# EAGLE library part SJ2-35894D-SMT-TR (library SJ2-35894D-SMT-TR)
4 conductors, 3.5mm, SMT Audio Jack w/ 2 Switch
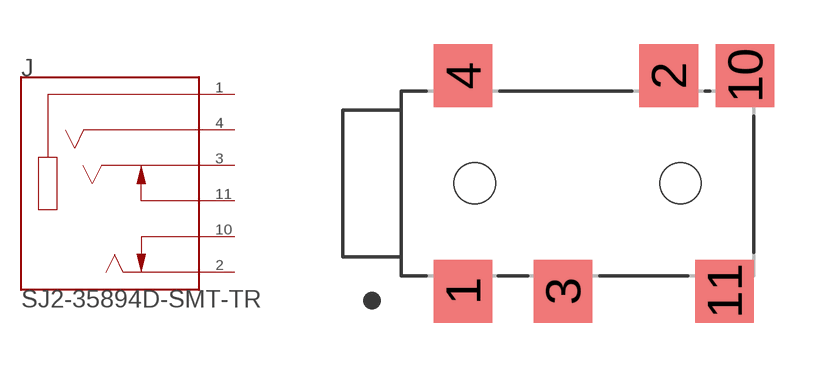
[diagram p0: symbol with the pads of CUI_SJ2-35894D-SMT-TR; footprint CUI_SJ2-35894D-SMT-TR]

Designator prefix J

## SJ2-35894D-SMT-TR (CUI_purchase_URL: https://www.cui.com/product/interconnect/connectors/audio-connectors/jacks/sj2-3589x-smt-series?utm_source=snapeda.com&utm_medium=referral&utm_campaign=snapedaBOM; Description: 3.5 mm, Stereo, Right Angle, Surface Mount _SMT_, Audio Jack Connector; Digi-Key_Part_Number: CP-SJ2-35894D-SMT-CT-ND; Digi-Key_Purchase_URL: https://www.digikey.com/product-detail/en/cui-inc/SJ2-35894D-SMT-TR/CP-SJ2-35894D-SMT-CT-ND/6619623?utm_source=snapeda&utm_medium=aggregator&utm_campaign=symbol; MF: CUI Inc.; MP: SJ2-35894D-SMT-TR; Package: None)  [CUI_SJ2-35894D-SMT-TR]
1  SLEEVE  pas
2  TIP  pas
3  RING1  pas
4  RING2  pas
10  TIP_SWITCH  pas
11  RING1_SWITCH  pas

## Footprint CUI_SJ2-35894D-SMT-TR (pad centres in mm)
smd 2 x 2.15: 1 -3.9,-3.675; 2 3.1,3.675; 3 -0.5,-3.675; 4 -3.9,3.675; 10 5.7,3.675; 11 5,-3.675
hole 1.4 at -3.5,0
hole 1.4 at 3.5,0